# EAGLE library part ADAFRUIT-OLED-BREAKOUT (library adafruit)
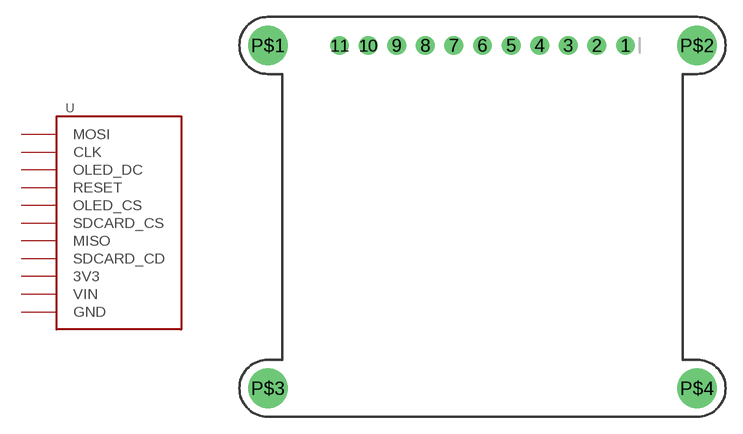
[diagram p0: symbol with the pads of OLED-1.27INCH-BREAKOUT; footprint OLED-1.27INCH-BREAKOUT]

Designator prefix -

## ADAFRUIT-OLED-BREAKOUT  [OLED-1.27INCH-BREAKOUT]
1  MOSI
2  CLK
3  OLED_DC
4  RESET
5  OLED_CS
6  SDCARD_CS
7  MISO
8  SDCARD_CD
9  3V3  pwr
10  VIN  pwr
11  GND  pwr
P$1  GND  pwr
P$2  GND  pwr
P$3  GND  pwr
P$4  GND  pwr

## Footprint OLED-1.27INCH-BREAKOUT (pad centres in mm)
drill 1 pad 1.676: 1 12.7,15.24; 2 10.16,15.24; 3 7.62,15.24; 4 5.08,15.24; 5 2.54,15.24; 6 0,15.24; 7 -2.54,15.24; 8 -5.08,15.24; 9 -7.62,15.24; 10 -10.16,15.24; 11 -12.7,15.24
drill 2.5 pad 3.2: P$1 -19.05,15.24; P$2 19.05,15.24; P$3 -19.05,-15.24; P$4 19.05,-15.24